# EAGLE library part AD7685 (library straingauge)
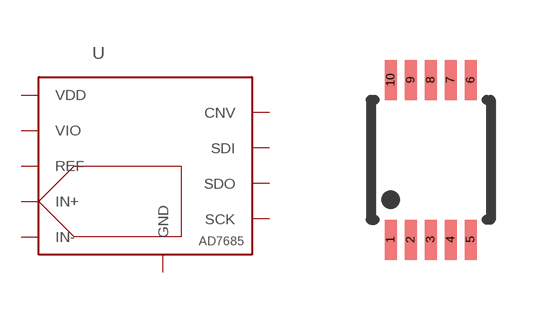
[diagram p0: symbol with the pads of MSOP-10; footprint MSOP-10]

Designator prefix -

## AD7685  [MSOP-10]
1  REF  in
2  VDD  pwr
3  IN+  in
4  IN-  in
5  GND  pwr
6  CNV
7  SDO
8  SCK
9  SDI
10  VIO  pwr

## Footprint MSOP-10 (pad centres in mm)
smd 0.3 x 1: 1 -1,-2; 2 -0.5,-2; 3 0,-2; 4 0.5,-2; 5 1,-2; 6 1,2; 7 0.5,2; 8 0,2; 9 -0.5,2; 10 -1,2